# EAGLE library part 24CS01 (library MIDI Signal Conditioner Parts)
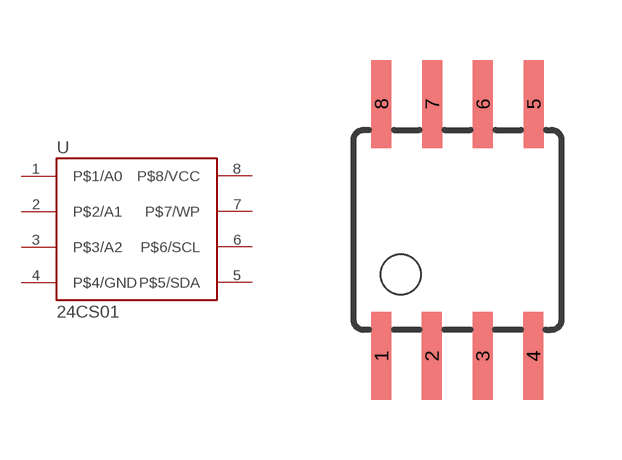
[diagram p4: symbol with the pads of 24CS01-SO8; footprint 24CS01-SO8]

Designator prefix -

## 24CS01  [24CS01-SO8]
1  P$1/A0
2  P$2/A1
3  P$3/A2
4  P$4/GND
5  P$5/SDA
6  P$6/SCL
7  P$7/WP
8  P$8/VCC

## Footprint 24CS01-SO8 (pad centres in mm)
Wide Plastic Gull Wing Small Outline Package
smd 0.5 x 2.2: 1 -1.905,-3.154; 2 -0.645,-3.154; 3 0.625,-3.154; 4 1.895,-3.154; 5 1.905,3.154; 6 0.635,3.154; 7 -0.635,3.154; 8 -1.905,3.154